# EAGLE library part STM32F103C8T6 (library stm32f103c8t6_module)
STM32F103C8T6 module with ARM Cortex-3, 20kB SRAM, 64kB Flash, 72MHz
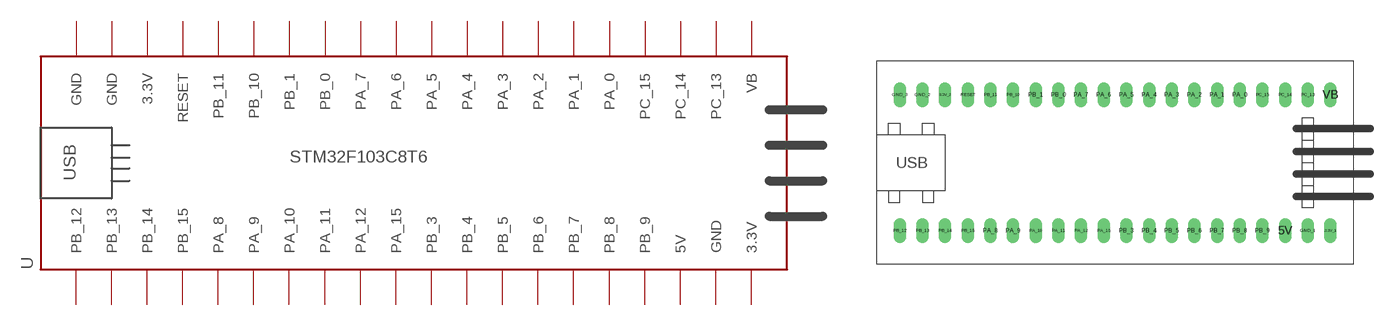
[diagram p0: symbol with the pads of STM32F103C8T6; footprint STM32F103C8T6]

Designator prefix -

## STM32F103C8T6  [STM32F103C8T6]
3.3V_1  3.3V
3.3V_2  3.3V
5V  5V
GND_1  GND
GND_2  GND
GND_3  GND  pwr
PA_0  PA_0
PA_1  PA_1
PA_2  PA_2
PA_3  PA_3
PA_4  PA_4
PA_5  PA_5
PA_6  PA_6
PA_7  PA_7
PA_8  PA_8
PA_9  PA_9
PA_10  PA_10
PA_11  PA_11
PA_12  PA_12
PA_15  PA_15
PB_0  PB_0
PB_1  PB_1
PB_3  PB_3
PB_4  PB_4
PB_5  PB_5
PB_6  PB_6
PB_7  PB_7
PB_8  PB_8
PB_9  PB_9
PB_10  PB_10
PB_11  PB_11
PB_12  PB_12
PB_13  PB_13
PB_14  PB_14
PB_15  PB_15
PC_13  PC_13
PC_14  PC_14
PC_15  PC_15
RESET  RESET
VB  VB

## Footprint STM32F103C8T6 (pad centres in mm)
drill 0.9 long: 3.3V_1 25.4,-7.62; 3.3V_2 -17.78,7.62; 5V 20.32,-7.62; GND_1 22.86,-7.62; GND_2 -20.32,7.62; GND_3 -22.86,7.62; PA_0 15.24,7.62; PA_1 12.7,7.62; PA_2 10.16,7.62; PA_3 7.62,7.62; PA_4 5.08,7.62; PA_5 2.54,7.62; PA_6 0,7.62; PA_7 -2.54,7.62; PA_8 -12.7,-7.62; PA_9 -10.16,-7.62; PA_10 -7.62,-7.62; PA_11 -5.08,-7.62; PA_12 -2.54,-7.62; PA_15 0,-7.62; PB_0 -5.08,7.62; PB_1 -7.62,7.62; PB_3 2.54,-7.62; PB_4 5.08,-7.62; PB_5 7.62,-7.62; PB_6 10.16,-7.62; PB_7 12.7,-7.62; PB_8 15.24,-7.62; PB_9 17.78,-7.62; PB_10 -10.16,7.62; PB_11 -12.7,7.62; PB_12 -22.86,-7.62; PB_13 -20.32,-7.62; PB_14 -17.78,-7.62; PB_15 -15.24,-7.62; PC_13 22.86,7.62; PC_14 20.32,7.62; PC_15 17.78,7.62; RESET -15.24,7.62; VB 25.4,7.62